# Altium footprint library dmpro16lib.PcbLib: 5 footprints
Each footprint in its own frame and in the unit in brackets; x right, y up, seen from the top. Pads: shape width x height; smd on the part's side, far side on the other; paste and mask are expansions set on the pad; w line width, h text height; cw(c..) or ccw(c..) is an arc to the next point about the centre after c.
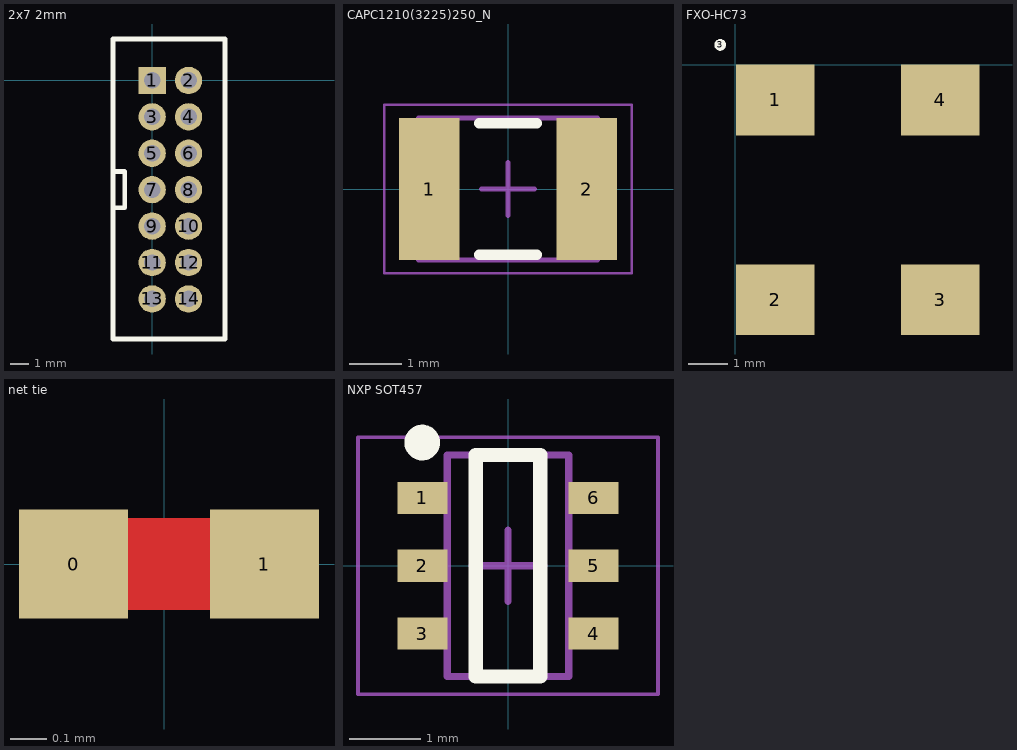
[diagram p0: the footprints below, top view; thin cyan lines are the x and y axes]

## 2x7 2mm [mm] "2x7 2mm pitch molex vertical shrouded header"
pads (14):
  rect 1.5x1.5 hole 0.9: 1(0,0)
  round 1.5 hole 0.9: 2(2,0) 3(0,-2) 4(2,-2) 5(0,-4) 6(2,-4) 7(0,-6) 8(2,-6) 9(0,-8) 10(2,-8) 11(0,-10) 12(2,-10) 13(0,-12) 14(2,-12)
Top Overlay:
  lines w0.254: -2.125,-7 -1.5,-7 -1.5,-5 -2.075,-5 ; -2.15,-14.2 4,-14.2 4,2.275 -2.15,2.275 -2.15,-14.2
3D body "878311420.stp": height 6.41, standoff -2.49, extent -2.2,-14.3 4.1,2.35

## CAPC1210(3225)250_N [mm] "Chip Capacitor, Body 3.2x2.5mm, Height 2.5mm, IPC Medium Density"
height 2.5
pads (2):
  rect 1.15x2.7 smd: 1(-1.5,0) 2(1.5,0)
Top Overlay:
  lines w0.2: -0.55,-1.25 0.55,-1.25 ; -0.55,1.25 0.55,1.25
Mechanical 13:
  lines w0.1: -1.7,-1.35 1.7,-1.35 1.7,1.35 -1.7,1.35 -1.7,-1.35
Mechanical 15:
  lines w0.05: -2.35,-1.6 2.35,-1.6 2.35,1.6 -2.35,1.6 -2.35,-1.6
  lines w0.1: -0.5,0 0.5,0 ; 0,-0.5 0,0.5
3D body: height 2.5, standoff 0, extent 1.2,-1.35 1.7,1.35
3D body: height 2.5, standoff 0, extent -1.7,-1.35 -1.2,1.35
3D body: height 2.5, standoff 0, extent -1.2,-1.35 1.2,1.35

## FXO-HC73 [mm] "MEMS oscillator 7x5 mm industry standard package"
pads (5):
  rect 2x1.8 smd: 1(1.016,-0.889) 2(1.016,-5.969) 3(5.216,-5.969) 4(5.216,-0.889)
  round 0.3 on Top Overlay: 3(-0.381,0.508)
3D body "FXO-HC73.step": height 1.4, standoff -0.01, extent 0.495,-7.179 5.715,0.321

## net tie [mm] "two pads connected to form a net tie"
pads (2):
  rect 0.3x0.3 smd: 0(-0.25,0) 1(0.275,0)
Top Layer:
  lines w0.254: -0.25,0 0.275,0

## NXP SOT457 [mm] "6 pin SOT457 smd package, NXP"
height 1.1
pads (6):
  rect 0.7x0.45 smd: 1(-1.2,0.95) 2(-1.2,0) 3(-1.2,-0.95) 4(1.2,-0.95) 5(1.2,0) 6(1.2,0.95)
Top Overlay:
  circle w0.25: c-1.2,1.725 r0.125
  lines w0.2: -0.45,-1.55 0.45,-1.55 0.45,1.55 -0.45,1.55 -0.45,-1.55
Mechanical 13:
  lines w0.1: -0.85,-1.55 -0.85,1.55 0.85,1.55 0.85,-1.55 -0.85,-1.55
Mechanical 15:
  lines w0.05: -2.1,-1.8 -2.1,1.8 2.1,1.8 2.1,-1.8 -2.1,-1.8
  lines w0.1: -0.5,0 0.5,0 ; 0,-0.5 0,0.5
3D body "User Library-SOT457.STEP": height 1.01, standoff 0.01, extent -1.403,-1.5 1.397,1.5